# Altium schematic symbol library texas_instruments.SchLib: 5 symbols
Pins are listed as number, name and electrical type; pins without a type are passive.

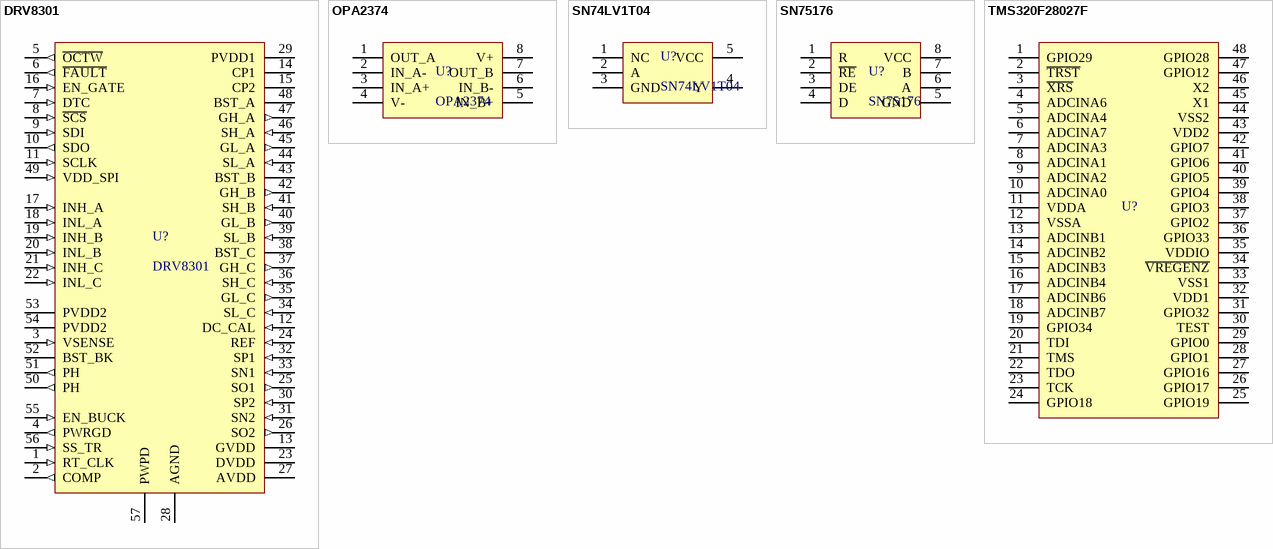
[diagram p0: symbols DRV8301 to TMS320F28027F]

## DRV8301
designator U?
footprint SO56_POWERPAD
pins: 1 RT_CLK (in), 2 COMP (out), 3 VSENSE (in), 4 PWRGD (out), 5 ~{OCTW} (out), 6 ~{FAULT} (out), 7 DTC (in), 8 ~{SCS} (in), 9 SDI (in), 10 SDO (out), 11 SCLK (in), 12 DC_CAL (in), 13 GVDD (power), 14 CP1 (power), 15 CP2 (power), 16 EN_GATE (in), 17 INH_A (in), 18 INL_A (in), 19 INH_B (in), 20 INL_B (in), 21 INH_C (in), 22 INL_C (in), 23 DVDD (power), 24 REF (in), 25 SO1 (out), 26 SO2 (out), 27 AVDD (power), 28 AGND (power), 29 PVDD1 (power), 30 SP2 (in), 31 SN2 (in), 32 SP1 (in), 33 SN1 (in), 34 SL_C (in), 35 GL_C (out), 36 SH_C (in), 37 GH_C (out), 38 BST_C (power), 39 SL_B (in), 40 GL_B (out), 41 SH_B (in), 42 GH_B (out), 43 BST_B (power), 44 SL_A (in), 45 GL_A (out), 46 SH_A (in), 47 GH_A (out), 48 BST_A (power), 49 VDD_SPI (in), 50 PH (out), 51 PH (out), 52 BST_BK (power), 53 PVDD2 (power), 54 PVDD2 (power), 55 EN_BUCK (in), 56 SS_TR (in), 57 PWPD (power)

## OPA2374
designator U?
footprint SOT23-8
pins: 1 OUT_A, 2 IN_A-, 3 IN_A+, 4 V-, 5 IN_B+, 6 IN_B-, 7 OUT_B, 8 V+

## SN74LV1T04
designator U?
footprint SOT23-5
pins: 1 NC, 2 A, 3 GND, 4 Y, 5 VCC

## SN75176
designator U?
footprint SOIC-8
pins: 1 R, 2 ~{RE}, 3 DE, 4 D, 5 GND, 6 A, 7 B, 8 VCC

## TMS320F28027F
designator U?  (value not drawn)
footprint PQFP48
pins: 1 GPIO29, 2 ~{TRST}, 3 ~{XRS}, 4 ADCINA6, 5 ADCINA4, 6 ADCINA7, 7 ADCINA3, 8 ADCINA1, 9 ADCINA2, 10 ADCINA0, 11 VDDA, 12 VSSA, 13 ADCINB1, 14 ADCINB2, 15 ADCINB3, 16 ADCINB4, 17 ADCINB6, 18 ADCINB7, 19 GPIO34, 20 TDI, 21 TMS, 22 TDO, 23 TCK, 24 GPIO18, 25 GPIO19, 26 GPIO17, 27 GPIO16, 28 GPIO1, 29 GPIO0, 30 TEST, 31 GPIO32, 32 VDD1, 33 VSS1, 34 ~{VREGENZ}, 35 VDDIO, 36 GPIO33, 37 GPIO2, 38 GPIO3, 39 GPIO4, 40 GPIO5, 41 GPIO6, 42 GPIO7, 43 VDD2, 44 VSS2, 45 X1, 46 X2, 47 GPIO12, 48 GPIO28